# Altium schematic symbol library DAC80502DRXR.SchLib: 2 symbols
Pins are listed as number, name and electrical type; pins without a type are passive.

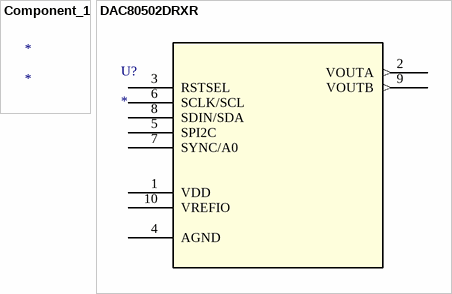
[diagram p0: symbols Component_1 to DAC80502DRXR]

## Component_1
designator *

## DAC80502DRXR
designator U?
No Description Available; Mfr_Name: Texas Instruments; RefDes: RefDes; Type: Type
footprint SON_02DRXR_TEX
pins: 1 VDD (power), 2 VOUTA (out), 3 RSTSEL, 4 AGND (power), 5 SPI2C, 6 SCLK/SCL, 7 SYNC/A0, 8 SDIN/SDA, 9 VOUTB (out), 10 VREFIO (power)